# Altium schematic symbol library 3-1734577-4.SchLib: 1 symbol
Pins are listed as number, name and electrical type; pins without a type are passive.

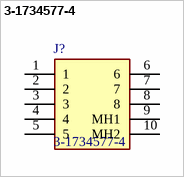
[diagram p0: symbol 3-1734577-4]

## 3-1734577-4
designator J?
RJ45 Connector, Single Port, 1 x 1, Standard Connector Contact Density, Jack, Shielded, Cat 3, Standard - Latch Down, 8 Position, Standard Profile; Manufacturer_Name: TE Connectivity; Geometry.Height: 16.8mm; Mouser Part Number: 571-3-1734577-4; Mouser Price/Stock: https://www.mouser.co.uk/ProductDetail/TE-Connectivity-AMP/3-1734577-4?qs=Z4JOKa0a9TUSCOA052xCCw%3D%3D; Manufacturer_Part_Number: 3-1734577-4; Datasheet Link: https://www.te.com/commerce/DocumentDelivery/DDEController?Action=showdoc&DocId=Customer+Drawing%7F1734577%7FD1%7Fpdf%7FEnglish%7FENG_CD_1734577_D1.pdf%7F3-1734577-4
footprint 317345774
pins: 1, 2, 3, 4, 5, 6, 7, 8, 9 MH1, 10 MH2